# Altium footprint library PcbLib1.PcbLib: 3 footprints
Each footprint in its own frame and in the unit in brackets; x right, y up, seen from the top. Pads: shape width x height; smd on the part's side, far side on the other; paste and mask are expansions set on the pad; w line width, h text height; cw(c..) or ccw(c..) is an arc to the next point about the centre after c.
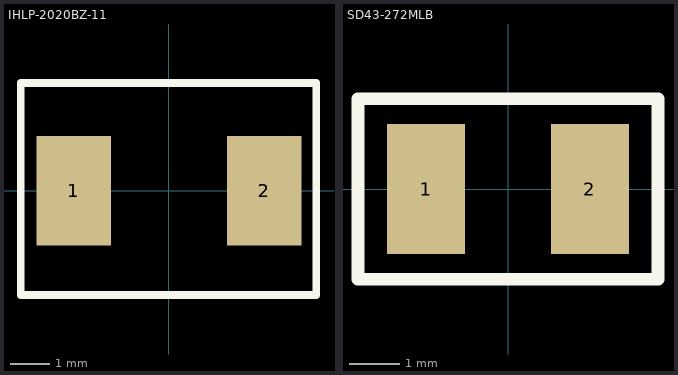
[diagram p0: the footprints below, top view; thin cyan lines are the x and y axes]

## IHLP-2020BZ-11 [mm]
pads (2):
  rect 1.905x2.79 smd: 1(-2.425,0) 2(2.426,0)
Top Overlay:
  lines w0.2: -3.775,-2.65 3.75,-2.65 3.75,2.75 -3.775,2.75 -3.775,-2.65
3D body "IHLP2020BZ.STEP": height 1.93, standoff 0.01, extent -2.725,-2.575 2.725,2.571

## PCBComponent_1 [mil]

## SD43-272MLB [mil]
pads (2):
  rect 61x102 smd: 1(-64.5,0) 2(64.5,0)
Top Overlay:
  lines w10: -118,-71 -118,71 -84,71 118,71 118,-71 -118,-71